# Altium footprint library 0ZCM0010FF2G.PcbLib: 1 footprints
Each footprint in its own frame and in the unit in brackets; x right, y up, seen from the top. Pads: shape width x height; smd on the part's side, far side on the other; paste and mask are expansions set on the pad; w line width, h text height; cw(c..) or ccw(c..) is an arc to the next point about the centre after c.
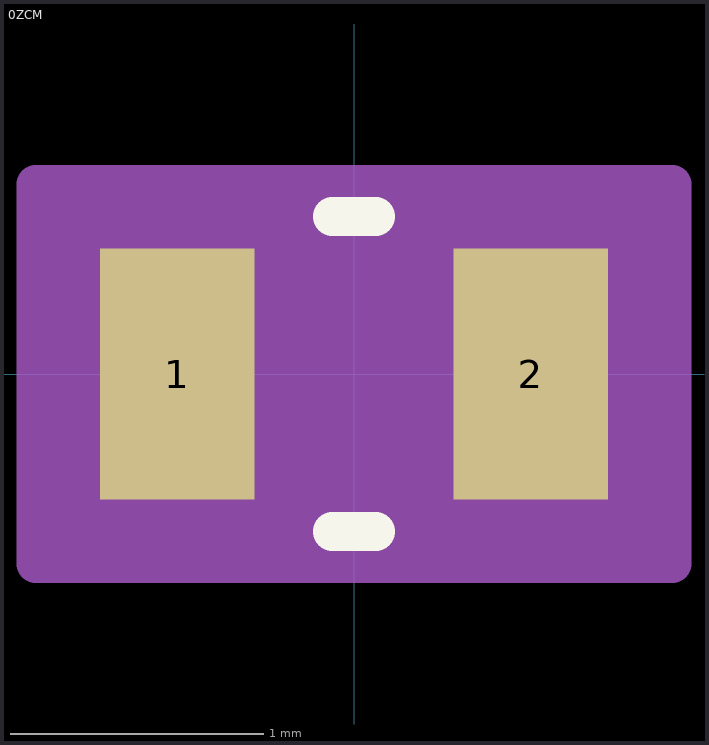
[diagram p0: the footprint, top view; thin cyan lines are the x and y axes]

## 0ZCM [mil]
pads (2):
  rect 24x39 smd paste+0 mask+0: 1(-27.5,0) 2(27.5,0)
Top Overlay:
  lines w6: -3.39,-24.5 3.39,-24.5 ; -3.39,24.5 3.39,24.5
Mechanical 13:
  circle w0: c-25.5,0 r3
  lines w1: -35.5,-19.5 -35.5,19.5 35.5,19.5 35.5,-19.5 -35.5,-19.5
Mechanical 15:
  region: 35.5,-19.5 -35.5,-19.5 -35.5,19.5 35.5,19.5
  region: -45.5,-29.5 -49.5,-29.5 -49.5,29.5 -45.5,29.5 45.5,29.5 49.5,29.5 49.5,-29.5 45.5,-29.5
  lines w6: -49.5,-29.5 -45.5,-29.5 45.5,-29.5 49.5,-29.5 49.5,29.5 45.5,29.5 -45.5,29.5 -49.5,29.5 -49.5,-29.5
3D body: height 10, standoff 0, extent 0,0 10,10
3D body "0ZCM.stp": height 30, standoff 0, extent -35.5,-19.48 35.52,19.5